# Altium schematic symbol library UUSymbol.SchLib: 140 symbols (part 2 of 2)
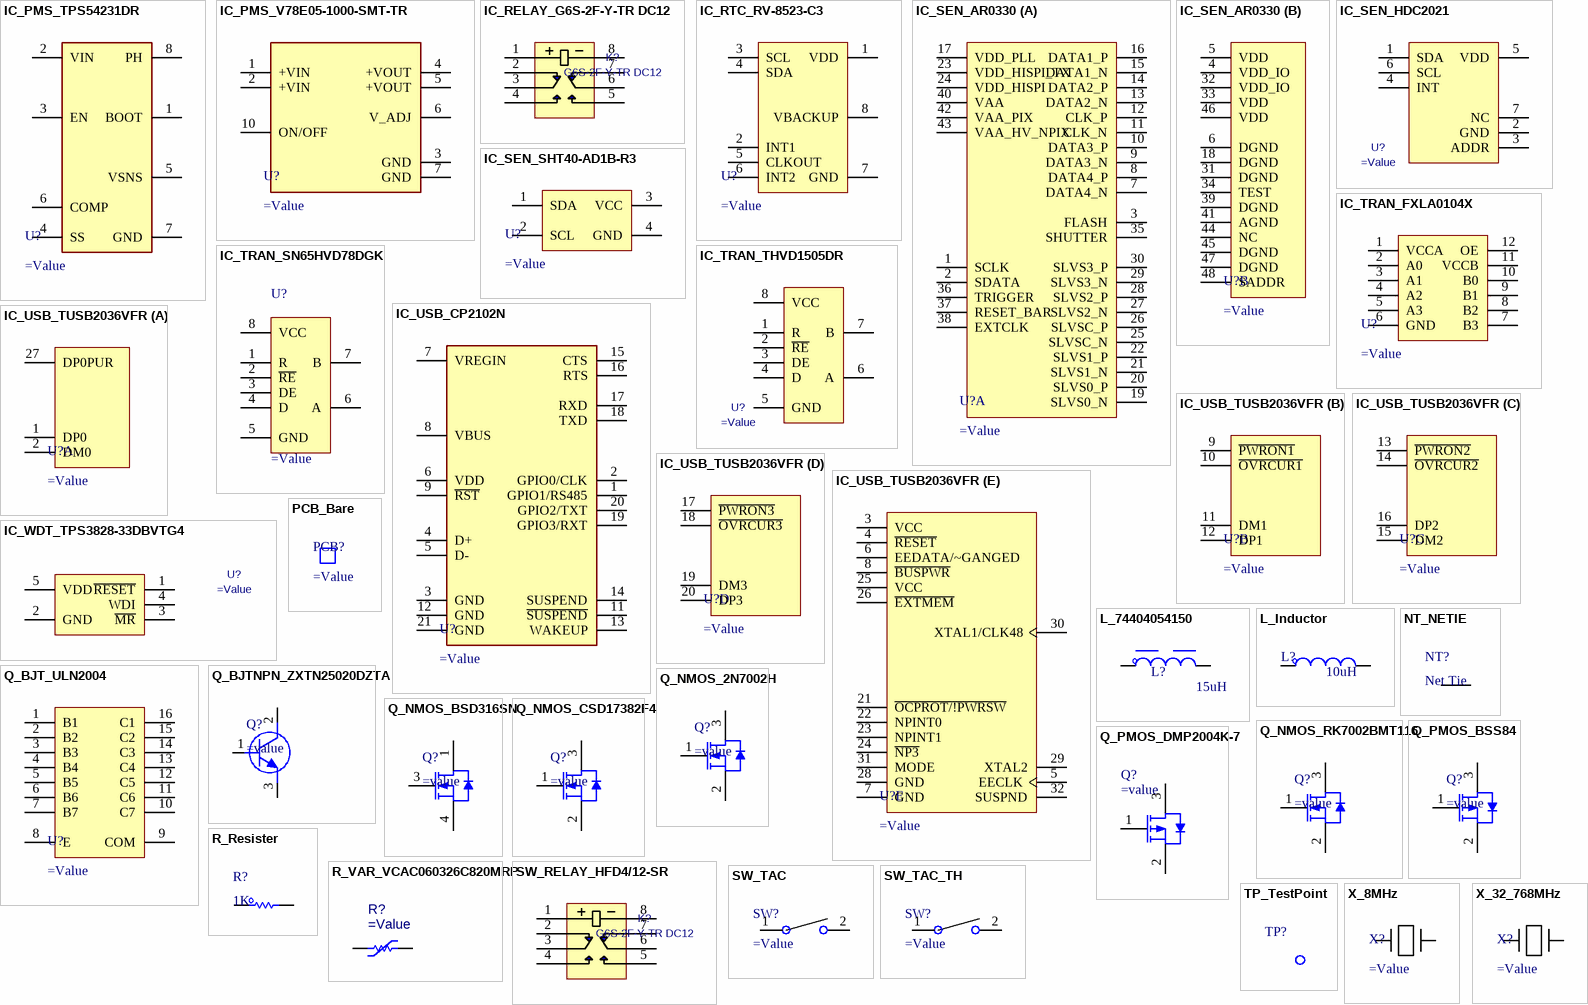
[diagram p7: symbols IC_PMS_TPS54231DR to X_32_768MHz]

## IC_RTC_RV-8523-C3
designator U?
IC RTC CLK/CALENDAR I2C 10SON; PartNumber: RV-8523-C3-32.768KHZ-20PPM-TA-QC; Manufacturer: Micro Crystal AG; Value: RV-8523-C3-32.768KHZ-20PPM-TA-QC; PartID: 2195-RV-8523-C3-32.768KHZ-20PPM-TA-QCCT-ND; PackageReference: *; Value3: *
footprint RV8523C3
pins: 1 VDD, 2 INT1, 3 SCL, 4 SDA, 5 CLKOUT, 6 INT2, 7 GND, 8 VBACKUP

## IC_SEN_AR0330
designator U?
Image Sensors 3 MP 1/3 CIS; PartNumber: AR0330CM1C00SHAA0-DP1; Manufacturer: onsemi; Value: AR0330CM1C00SHAA0-DP1; PartID: 863-AR0330CM1C00SHDP; PackageReference: CLCC-48; Value2: *; Value3: *
footprint CLCC48_11P43X11P
part A pins: 1 SCLK, 2 SDATA, 3 FLASH, 7 DATA4_N, 8 DATA4_P, 9 DATA3_N, 10 DATA3_P, 11 CLK_N, 12 CLK_P, 13 DATA2_N, 14 DATA2_P, 15 DATA1_N, 16 DATA1_P, 17 VDD_PLL, 19 SLVS0_N, 20 SLVS0_P, 21 SLVS1_N, 22 SLVS1_P, 23 VDD_HISPI_TX, 24 VDD_HISPI, 25 SLVSC_N, 26 SLVSC_P, 27 SLVS2_N, 28 SLVS2_P, 29 SLVS3_N, 30 SLVS3_P, 35 SHUTTER, 36 TRIGGER, 37 RESET_BAR, 38 EXTCLK, 40 VAA, 42 VAA_PIX, 43 VAA_HV_NPIX
part B pins: 4 VDD_IO, 5 VDD, 6 DGND, 18 DGND, 31 DGND, 32 VDD_IO, 33 VDD, 34 TEST, 39 DGND, 41 AGND, 44 NC, 45 DGND, 46 VDD, 47 DGND, 48 SADDR

## IC_SEN_HDC2021
designator U?
HUMIDITY SENSOR; PartNumber: HDC2021DEBR; Manufacturer: Texas Instruments; Value: HDC2021DEBR; PackageReference: DCY0004A; PartID: 296-HDC2021DEBRCT-ND
footprint WSON6_DEB_TEX
pins: 1 SDA, 2 GND, 3 ADDR, 4 INT, 5 VDD, 6 SCL, 7 NC

## IC_SEN_SHT40-AD1B-R3
designator U?
SENSOR HUMIDITY 100 RH SMD; PartNumber: SHT40-AD1B-R3; Manufacturer: Sensirion AG; Value: SHT40-AD1B-R3; PartID: 1649-SHT40-AD1B-R3CT-ND; PackageReference: QFN-4; Value2: *; Value3: *
footprint XDCR_SHT40-AD1B-R2
pins: 1 SDA, 2 SCL, 3 VCC, 4 GND

## IC_TRAN_FXLA0104X
designator U?
IC TRNSLTR BIDIRECTIONAL 12MLP; PartNumber: FXLA0104QFX-F106; Manufacturer: onsemi; Value: FXLA0104QFX-F106; PartID: FXLA0104QFX-F106CT-ND; PackageReference: MLP-12; Value2: *; Value3: *
footprint UMLP12_1P7X2_O00
pins: 1 VCCA, 2 A0, 3 A1, 4 A2, 5 A3, 6 GND, 7 B3, 8 B2, 9 B1, 10 B0, 11 VCCB, 12 OE

## IC_TRAN_SN65HVD78DGK
designator U?
IC TRANSCEIVER HALF 1/1 8VSSOP; PartNumber: SN65HVD78DGK; Manufacturer: Texas Instruments; Value: SN65HVD78DGK; PartID: 296-41611-5-ND; PackageReference: VSSOP-8; Value2: *; Value3: *
footprint SOP65P490X110-8N
pins: 1 R, 2 ~{RE}, 3 DE, 4 D, 5 GND, 6 A, 7 B, 8 VCC

## IC_TRAN_THVD1505DR
designator U?
IC TRANSCEIVER HALF 1/1 8SOIC; Manufacturer: Texas Instruments; PartNumber: THVD1505DR; Value: THVD1505DR; Value3: SN65HVD1780QDRQ1; PackageReference: 8SOIC; PartID: 296-THVD1505DRCT-ND
footprint D0008A_L
pins: 1 R, 2 ~{RE}, 3 DE, 4 D, 5 GND, 6 A, 7 B, 8 VCC

## IC_USB_CP2102N
designator U?
IC USB TO UART BRIDGE QFN20; PartNumber: CP2102N-A02-GQFN20; Manufacturer: Silicon Labs; Value: CP2102N-A02-GQFN20; PartID: 634-CP2102NA02GQFN20; PackageReference: QFN-20; Value2: *; Value3: *
footprint SILABS_CP2102N-A02-GQFN20R
pins: 1 GPIO1/RS485, 2 GPIO0/CLK, 3 GND, 4 D+, 5 D-, 6 VDD, 7 VREGIN, 8 VBUS, 9 ~{RST}, 11 ~{SUSPEND}, 12 GND, 13 WAKEUP, 14 SUSPEND, 15 CTS, 16 RTS, 17 RXD, 18 TXD, 19 GPIO3/RXT, 20 GPIO2/TXT, 21 GND

## IC_USB_TUSB2036VFR
designator U?
IC HUB CONTROLLER USB 2.0 32LQFP; PartNumber: TUSB2036VFR; Manufacturer: Texas Instruments; Value: TUSB2036VFR; PartID: 296-27129-1-ND; PackageReference: LQFP-32; Value3: *
footprint QFP80P900X900X160-32N
part A pins: 1 DP0, 2 DM0, 27 DP0PUR
part B pins: 9 ~{PWRON1}, 10 ~{OVRCUR1}, 11 DM1, 12 DP1
part C pins: 13 ~{PWRON2}, 14 ~{OVRCUR2}, 15 DM2, 16 DP2
part D pins: 17 ~{PWRON3}, 18 ~{OVRCUR3}, 19 DM3, 20 DP3
part E pins: 3 VCC, 4 ~{RESET}, 5 EECLK, 6 EEDATA/~GANGED, 7 GND, 8 ~{BUSPWR}, 21 ~{OCPROT/!PWRSW}, 22 NPINT0, 23 NPINT1, 24 ~{NP3}, 25 VCC, 26 ~{EXTMEM}, 28 GND, 29 XTAL2, 30 XTAL1/CLK48, 31 MODE, 32 SUSPND

## IC_WDT_TPS3828-33DBVTG4
designator U?
IC SUPERVISOR 1 CHANNEL SOT23-5; Manufacturer: Texas Instruments; Value: TPS3828-33DBVTG4; PackageReference: SOT-23; PartID: 296-52797-1-ND; PartNumber: TPS3828-33DBVTG4
footprint DBV5
pins: 1 ~{RESET}, 2 GND (power), 3 ~{MR}, 4 WDI, 5 VDD (power)

## L_74404054150
designator L?, comment 15uH
FIXED IND 15UH 2A 86 MOHM SMD; Manufacturer: Würth Elektronik; PartNumber: 74404054150; Value: 15uH; PackageReference: 0603; PartID: 732-5521-1-ND; Value3: *
footprint IND_04054150_WRE
pins: 1, 2

## L_Inductor
designator L?, comment 10uH
10µH Shielded Multilayer Inductor 250mA 1.05Ohm 0603 (1608 Metric); Manufacturer: TDK Corporation; PartNumber: MLZ1608M100WT000; Value: 10uH; PackageReference: 0603; PartID: 445-6389-1-ND; Value3: *
footprint L_0402 (Chip Inductor, 2-Leads, Body 1.00x0.50mm, IPC Medium Density)
footprint L_0603 (Chip Inductor, 2-Leads, Body 1.60x0.80mm, IPC Medium Density)
pins: 1, 2

## NT_NETIE
designator NT?, comment Net Tie  (net tie, no BOM)
Manufacturer: mindek30@gmail.com; Value: Net Tie; PackageReference: Non SE; PartID: =PCBRev; PartNumber: =PCB_PN+'_'+PCBRev; Value2: *; Value3: *
footprint Net_Tie
pins: 1, 2
2 alternate drawings of the same symbol

## PCB_Bare
designator PCB?  (mechanical)
BARE PCB; Manufacturer: mindek30@gmail.com; PartNumber: =PCB_PN+'_'+PCBRev; PackageReference: Non SE; PartID: =PCBRev; Value2: =JobFile_Title; Value: =PartNumber; Value3: =PCBA_PN+'_'+PCBARev

## Q_BJT_ULN2004
designator U?
IC PWR DRIVER NPN 1:1 16SOIC; Manufacturer: Texas Instruments; Value: ULQ2004ATDRQ1; PackageReference: 16-SOIC; PartID: 296-50195-1-ND; PartNumber: ULQ2004ATDRQ1
footprint D16
pins: 1 B1, 2 B2, 3 B3, 4 B4, 5 B5, 6 B6, 7 B7, 8 E, 9 COM, 10 C7, 11 C6, 12 C5, 13 C4, 14 C3, 15 C2, 16 C1

## Q_BJTNPN_ZXTN25020DZTA
designator Q?
MOSFET P-CH 60V 170MA SOT23-3; Manufacturer: Diodes Incorporated; Value: ZXTN25020DZTA; PackageReference: SOT-89-3; PartID: ZXTN25020DZCT-ND; PartNumber: ZXTN25020DZTA; Value3: *
footprint SOT89_4P5X2P4501
pins: 1 G, 2 S, 3 D
2 alternate drawings of the same symbol

## Q_NMOS_2N7002H
designator Q?
MOSFET N-CH 60V 300MA SOT23-3; Manufacturer: Infineon Technologies; Value: 2N7002H6327XTSA2; PackageReference: SOT23; PartID: 2N7002H6327XTSA2CT-ND; PartNumber: 2N7002H6327XTSA2; Value3: *
footprint SOT95P245X110-3M (SOT23, 3-Leads, Body 2.90x2.45mm, Pitch 0.95mm, IPC Low Density)
pins: 1 G, 2 S, 3 D
2 alternate drawings of the same symbol

## Q_NMOS_BSD316SN
designator Q?
MOSFET N-CH 30V 1.4A SOT363-6; Manufacturer: Infineon Technologies; Value: BSD316SNH6327XTSA1; PackageReference: SOT363-6; PartID: 448-BSD316SNH6327XTSA1CT-ND; PartNumber: BSD316SNH6327XTSA1; Value3: *
footprint BSD316SNH6327XTSA1
pins: 1 D, 2 D, 3 G, 4 S, 5 D, 6 D
2 alternate drawings of the same symbol

## Q_NMOS_CSD17382F4
designator Q?
MOSFET N-CH 30V 2.3A 3PICOSTAR; Manufacturer: Texas Instruments; Value: CSD17382F4; PackageReference: XFDFN-3; PartID: 296-49600-1-ND; PartNumber: CSD17382F4; Value3: *
footprint TRANS_CSD25481F4
pins: 1 G, 2 S, 3 D
2 alternate drawings of the same symbol

## Q_NMOS_RK7002BMT116
designator Q?
MOSFET N-Channel 60V/250mA,0.2W; Manufacturer: ROHM; Value: RK7002BMT116; PackageReference: SOT23; PartID: 0176-0358-6; PartNumber: RK7002BMT116; Value3: *
footprint SOT95P245X110-3M (SOT23, 3-Leads, Body 2.90x2.45mm, Pitch 0.95mm, IPC Low Density)
pins: 1 G, 2 S, 3 D
2 alternate drawings of the same symbol

## Q_PMOS_BSS84
designator Q?
MOSFET P-CH 60V 170MA SOT23-3; Manufacturer: Infineon Technologies; Value: BSS84PH6327XTSA2; PackageReference: SOT23; PartID: BSS84PH6327XTSA2CT-ND; PartNumber: BSS84PH6327XTSA2; Value3: *
footprint SOT95P245X110-3M (SOT23, 3-Leads, Body 2.90x2.45mm, Pitch 0.95mm, IPC Low Density)
pins: 1 G, 2 S, 3 D
2 alternate drawings of the same symbol

## Q_PMOS_DMP2004K-7
designator Q?
MOSFET P-CH 20V 600MA SOT23-3; Manufacturer: Diodes Incorporated; Value: DMP2004K-7; PackageReference: SOT23-5; PartID: DMP2004KDICT-ND; PartNumber: DMP2004K-7; Value3: *
footprint SOT95P245X110-3M (SOT23, 3-Leads, Body 2.90x2.45mm, Pitch 0.95mm, IPC Low Density)
pins: 1 G, 2 S, 3 D
2 alternate drawings of the same symbol

## R_Resister
designator R?, comment 1K
Resistor; Manufacturer: Vishay; PartNumber: EXB-2HV472JV; Value: 1K; PackageReference: 0603; PartID: *; Value2: *; Value3: *
footprint R_0402 (Chip Resistor, 2-Leads, Body 1.00x0.50mm, IPC Medium Density)
footprint R_0603 (Chip Resistor, 2-Leads, Body 1.60x0.80mm, IPC High Density)
footprint R_0201 (Chip Resistor, 2-Leads, Body 0.60x0.30mm, IPC High Density)
footprint R_2512 (RES SMD 3.3 OHM 5% 3W 2512)
pins: 1, 2
2 alternate drawings of the same symbol

## R_VAR_VCAC060326C820MRP
designator R?
VARISTOR 36V 30A 0603; Manufacturer: KYOCERA AVX; Value: VCAC060326C820MRP; PackageReference: 0603; PartID: 478-6255-1-ND; PartNumber: VCAC060326C820MRP
footprint R_0603 (Chip Resistor, 2-Leads, Body 1.60x0.80mm, IPC High Density)
pins: 1, 2
1 alternate drawing of the same symbol

## SW_RELAY_HFD4/12-SR
designator K?, comment G6S-2F-Y-TR DC12
Telecom Non Latching 12VDC DPDT SMD Relays RoHS; Manufacturer: Xiamen Hongfa Electroacoustic; Value: HFD4/12-SR; PackageReference: *; PartID: C44212; PartNumber: HFD4/12-SR
footprint RELAY_HFD4/12-SR (Telecom Non Latching 12VDC DPDT SMD Relays RoHS)
pins: 1, 2, 3, 4, 5, 6, 7, 8

## SW_TAC
designator SW?
SWITCH TACTILE SPST-NO 0.05A 50V; PartNumber: KSS241GLFS; Manufacturer: C&K; Value: KSS241GLFS; PartID: 401-1099-1-ND; PackageReference: *; Value2: *; Value3: *
pins: 1, 2

## SW_TAC_TH
designator SW?
SWITCH TACTILE SPST-NO 0.05A 50V; PartNumber: TC-0308-X-ROHS; Manufacturer: WEALTH METAL; Value: TC-0308-X-ROHS; PartID: 0171-0064-8; PackageReference: *; Value2: *; Value3: *
footprint Tactile (Tactile SW)
pins: 1, 2

## TP_TestPoint
designator TP?  (no BOM)
TestPoint; Manufacturer: *; PackageReference: *; PartID: *; PartNumber: *; Value2: *; Value3: *; Revision: July-2002: Re-released for DXP Platform.
footprint TP_Testpoint (Size 1 mm)
pins: 1
2 alternate drawings of the same symbol

## X_8MHz
designator X?
CRYSTAL 8.0000MHZ 8PF SMD; PartNumber: NX8045GB-8.000M-STD-CSJ-1; Manufacturer: NDK America, Inc.; Value: NX8045GB-8.000M-STD-CSJ-1; PartID: 644-1206-1-ND; PackageReference: *; Value2: *; Value3: *
footprint XTAL_SMD02_8X4P5
pins: 1, 2

## X_32_768MHz
designator X?
CRYSTAL 32.7680KHZ 7PF SMD; PartNumber: CM315D32768DZYT; Manufacturer: Citizen Finedevice Co Ltd; Value: CM315D32768DZYT; PartID: 300-8815-1-ND; PackageReference: *; Value2: *; Value3: *
footprint XTAL_CM315D_CF00
pins: 1, 2